# EAGLE library part 93626-3006 (library 93626-3006)
Modular Connectors / Ethernet Connectors MXMag GIG 8CORE RJ45 W/ LEDs GRN/YLW RA Source: Datasheet <https://componentsearchengine.com/Datasheets/2/93626-3006.pdf>
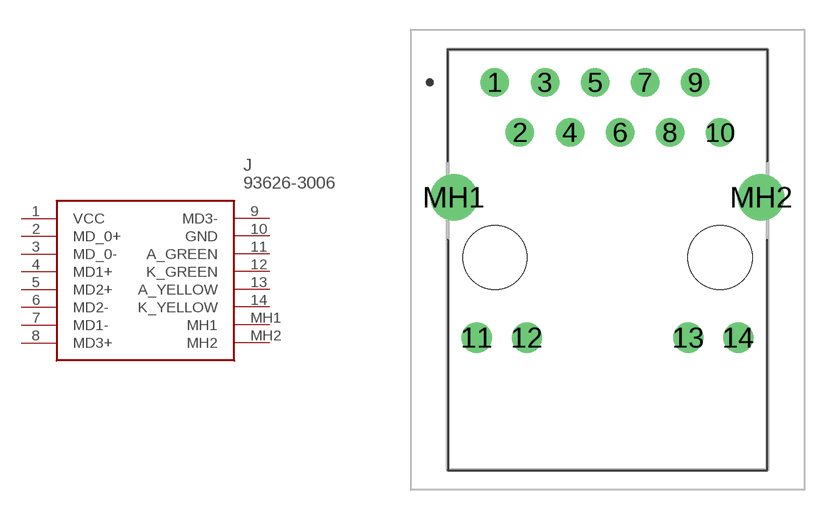
[diagram p0: symbol with the pads of 936263006; footprint 936263006]

Designator prefix J

## 93626-3006 (Description: Modular Connectors / Ethernet Connectors MXMag GIG 8CORE RJ45 W/ LEDs GRN/YLW RA; Height: 15.4mm; Manufacturer_Name: Molex; Manufacturer_Part_Number: 93626-3006; Mouser_Part_Number: 538-93626-3006; Mouser_Price-Stock: https://www.mouser.co.uk/ProductDetail/Molex/93626-3006?qs=gt1LBUVyoHkfcDt9i0XvxA%3D%3D)  [936263006]
1  VCC
2  MD_0+
3  MD_0-
4  MD1+
5  MD2+
6  MD2-
7  MD1-
8  MD3+
9  MD3-
10  GND
11  A_GREEN
12  K_GREEN
13  A_YELLOW
14  K_YELLOW
MH1  MH1
MH2  MH2

## Footprint 936263006 (pad centres in mm)
93626-3006-1
drill 0.89 pad 1.446: 1 0,0; 2 1.27,-2.54; 3 2.54,0; 4 3.81,-2.54; 5 5.08,0; 6 6.35,-2.54; 7 7.62,0; 8 8.89,-2.54; 9 10.16,0; 10 11.43,-2.54
drill 1.02 pad 1.53: 11 -0.92,-12.96; 12 1.62,-12.96; 13 9.81,-12.96; 14 12.35,-12.96
drill 1.58 pad 2.37: MH1 -2.08,-5.84; MH2 13.51,-5.84
hole 3.26 at 11.43,-8.89
hole 3.26 at 0,-8.89